# Altium footprint library PcbLib_Nixie.PcbLib: 17 footprints (part 1 of 2)
Each footprint in its own frame and in the unit in brackets; x right, y up, seen from the top. Pads: shape width x height; smd on the part's side, far side on the other; paste and mask are expansions set on the pad; w line width, h text height; cw(c..) or ccw(c..) is an arc to the next point about the centre after c.
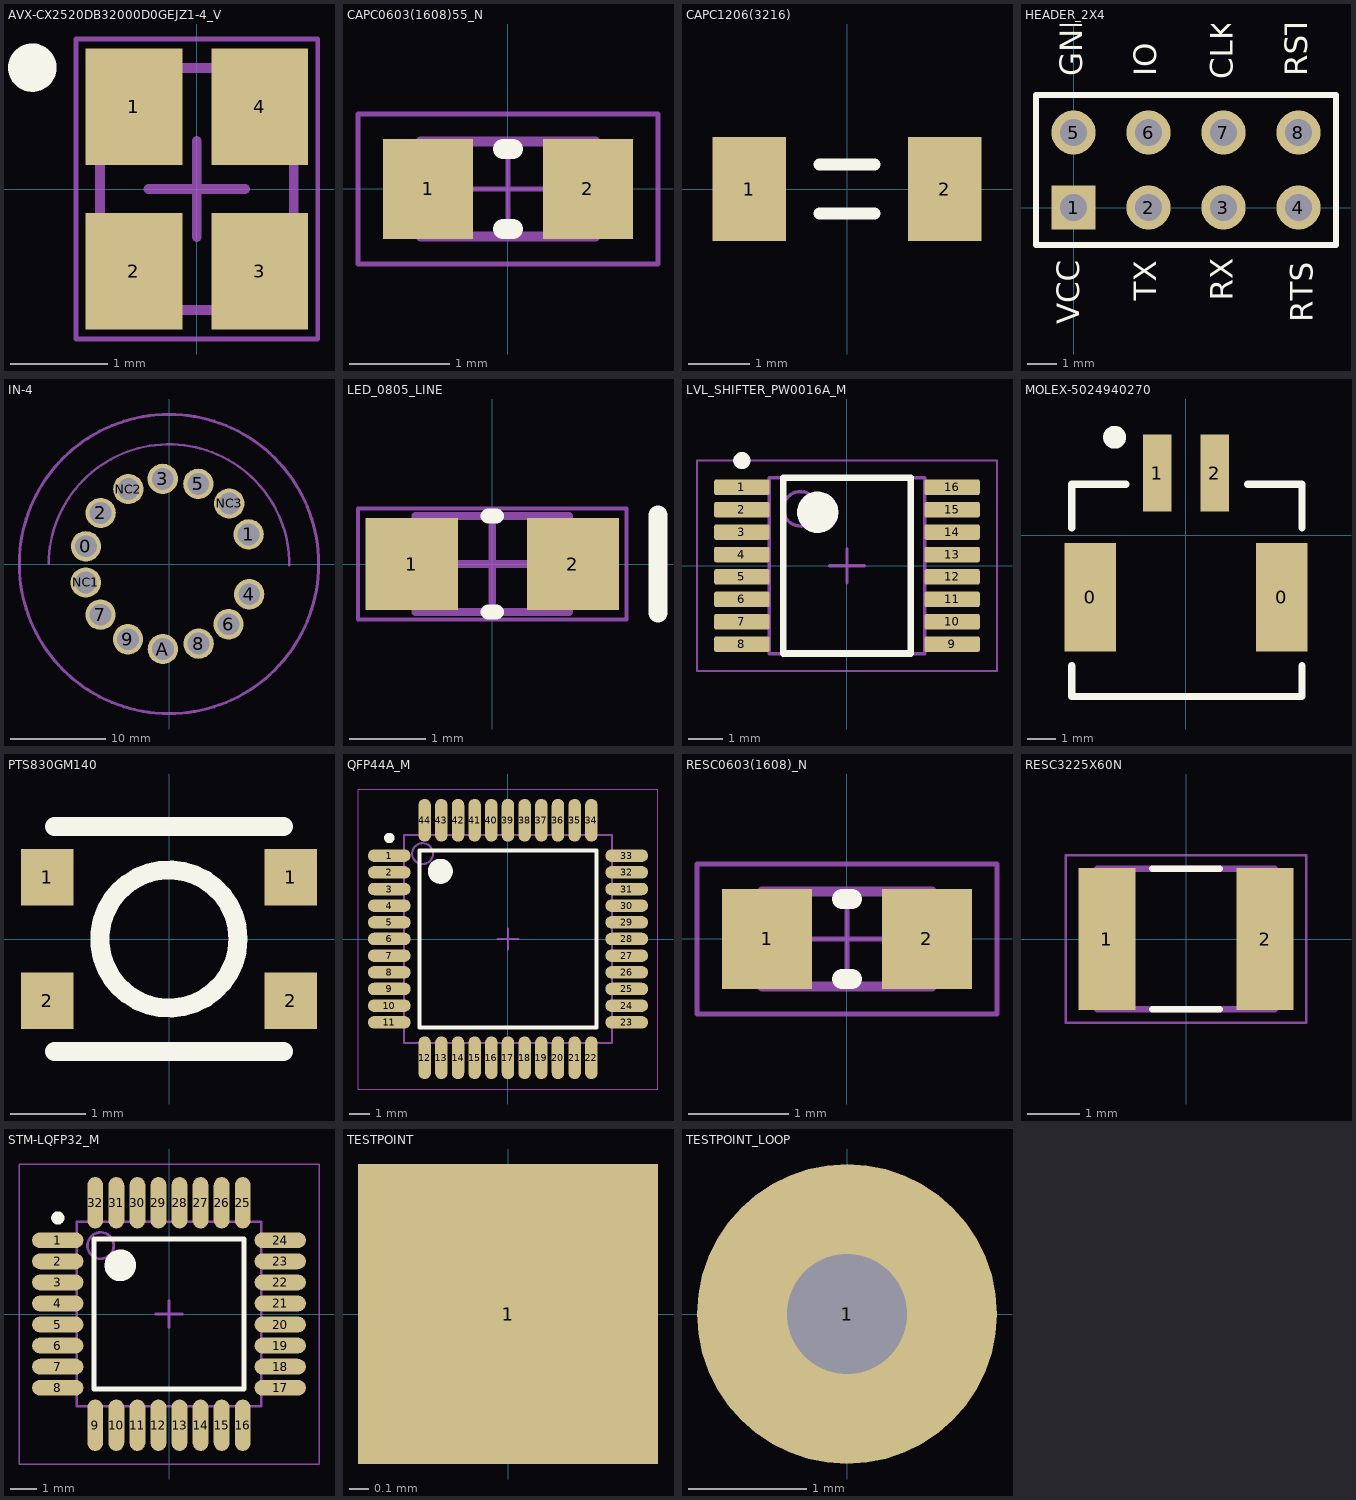
[diagram p0: the footprints below, top view; thin cyan lines are the x and y axes]

## AVX-CX2520DB32000D0GEJZ1-4_V [mm] "Hand Drawn, 4-Leads,Body 2.5x2mm"
height 0.55
pads (4):
  rect 1x1.2 smd: 1(-0.65,0.85) 2(-0.65,-0.85) 3(0.65,-0.85) 4(0.65,0.85)
Top Overlay:
  circle w0.25: c-1.7,1.254 r0.125
Mechanical 13:
  lines w0.1: -1,-1.25 -1,1.25 1,1.25 1,-1.25 -1,-1.25
Mechanical 15:
  lines w0.05: -1.25,-1.55 -1.25,1.55 1.25,1.55 1.25,-1.55 -1.25,-1.55
  lines w0.1: -0.5,0 0.5,0 ; 0,-0.5 0,0.5
3D body: height 0.55, standoff 0, extent -1,-1.25 1,1.25

## CAPC0603(1608)55_N [mm] "Chip Capacitor, Body 1.6x0.8mm, Height 0.55mm, IPC Medium Density"
height 0.55
pads (2):
  rect 0.9x1 smd: 1(-0.8,0) 2(0.8,0)
Top Overlay:
  lines w0.2: -0.05,-0.4 0.05,-0.4 ; -0.05,0.4 0.05,0.4
Mechanical 13:
  lines w0.1: -0.875,-0.475 0.875,-0.475 0.875,0.475 -0.875,0.475 -0.875,-0.475
Mechanical 15:
  lines w0.05: -0.475,0 0.475,0 ; 0,-0.475 0,0.475 ; -1.5,-0.75 1.5,-0.75 1.5,0.75 -1.5,0.75 -1.5,-0.75
3D body: height 0.55, standoff 0, extent 0.525,-0.475 0.875,0.475
3D body: height 0.55, standoff 0, extent -0.875,-0.475 -0.525,0.475
3D body: height 0.55, standoff 0, extent -0.525,-0.475 0.525,0.475

## CAPC1206(3216) [mm] "Chip Capacitor, Body 3.2x1.6mm, Height 0.55mm, IPC Medium Density"
height 0.55
pads (2):
  rect 1.2x1.7 smd: 1(-1.6,0) 2(1.6,0)
Top Overlay:
  lines w0.2: -0.45,-0.4 0.45,-0.4 ; -0.45,0.4 0.45,0.4
3D body "model.step": height 1.75, standoff 0.01, extent -1.6,-0.85 1.6,0.85

## HEADER_2X4 [mm]
pads (8):
  rect 1.5x1.5 hole 0.9: 1(0,0)
  round 1.5 hole 0.9: 2(2.54,0) 3(5.08,0) 4(7.62,0) 5(0,2.54) 6(2.54,2.54) 7(5.08,2.54) 8(7.62,2.54)
Top Overlay:
  lines w0.2: -1.27,-1.27 8.89,-1.27 8.89,3.81 -1.27,3.81 -1.27,-1.27
  text "GND" at 0.3,4.446 h0.76
  text "VCC" at 0.2,-3.954 h0.76
  text "RST" at 7.92,4.446 h0.76
  text "CLK" at 5.4,4.346 h0.76
  text "IO" at 2.8,4.446 h0.76
  text "RTS" at 8.1,-3.879 h0.76
  text "RX" at 5.4,-3.152 h0.76
  text "TX" at 2.8,-3.152 h0.76
3D body "User Library-2_54mm Male Header (4x2).STEP": height 8.54, standoff -3, extent -1.36,-1.315 8.8,3.665

## IN-4 [mm]
pads (14):
  round 3.2 / inner round 1.524 / far side round 3.2 hole 2.3: 0(-8.76,1.863) 1(8.394,3.123) 2(-7.214,5.386) 3(-0.659,8.976) 4(8.456,-3.189) 5(3.089,8.449) 6(6.282,-6.357) 7(-7.228,-5.344) 8(3.123,-8.394) 9(-4.33,-7.939) A(-0.645,-8.971) NC1(-8.781,-1.948) NC2(-4.291,7.907) NC3(6.35,6.382)
Top Solder:
  circle w2.54: c0,0 r1.27
  circle w0.025: c0,0 r2.54
Bottom Solder:
  circle w2.54: c0,0 r1.27
Drill Guide:
  circle w0.025: c0,0 r2.54
Mechanical 7:
  circle w0.254: c0,0 r15.756
  circle w0.254: c0,0 r15.819
  lines w0.254: -12.7,0 cw(c0,-0.079) 12.7,-0.159

## LED_0805_LINE [mm] "SMD, 2-Leads, Body 2x1.25mm"
height 0.8
pads (2):
  rect 1.2x1.2 smd: 1(-1.05,0) 2(1.05,0)
Top Overlay:
  lines w0.2: -0.051,-0.625 0.051,-0.625 ; -0.051,0.625 0.051,0.625
  lines w0.254: 2.159,-0.635 2.159,0.635
Mechanical 13:
  lines w0.1: -0.7,-0.625 -0.7,0.625 ; 0.7,-0.625 0.7,0.625 ; -1,-0.625 1,-0.625 1,0.625 -1,0.625 -1,-0.625
Mechanical 15:
  lines w0.05: -1.75,-0.725 -1.75,0.725 1.75,0.725 1.75,-0.725 -1.75,-0.725
  lines w0.1: -0.5,0 0.5,0 ; 0,-0.5 0,0.5
3D body: height 0.8, standoff 0, extent -0.7,-0.625 0.7,0.625
3D body: height 0.3, standoff 0, extent -1,-0.625 1,0.625

## LVL_SHIFTER_PW0016A_M [mm] "SOP, 16-Leads, Body 5.1x4.5mm, Pitch 0.65mm, IPC Low Density"
height 1.2
pads (16):
  rrect22% 1.6x0.45 smd: 1(-3.05,2.275) 2(-3.05,1.625) 3(-3.05,0.975) 4(-3.05,0.325) 5(-3.05,-0.325) 6(-3.05,-0.975) 7(-3.05,-1.625) 8(-3.05,-2.275) 9(3.05,-2.275) 10(3.05,-1.625) 11(3.05,-0.975) 12(3.05,-0.325) 13(3.05,0.325) 14(3.05,0.975) 15(3.05,1.625) 16(3.05,2.275)
Top Overlay:
  circle w0.25: c-3.05,3.05 r0.125
  circle w0.6: c-0.85,1.55 r0.3
  lines w0.2: -1.85,-2.55 -1.85,2.55 1.85,2.55 1.85,-2.55 -1.85,-2.55
Mechanical 13:
  circle w0.1: c-1.35,1.65 r0.5
  lines w0.1: -2.25,-2.55 -2.25,2.55 2.25,2.55 2.25,-2.55 -2.25,-2.55
Mechanical 15:
  lines w0.05: -4.35,-3.05 -4.35,3.05 4.35,3.05 4.35,-3.05 -4.35,-3.05
  lines w0.1: -0.5,0 0.5,0 ; 0,-0.5 0,0.5
3D body "PW0016AakaMTC16.stp": height 1, standoff 0, extent -3.21,-2.5 3.21,2.5

## MOLEX-5024940270 [mm] "Molex 5024940670 2 pin 2mm pitch SMD RA connector"
pads (4):
  rect 1.8x3.8 smd: 0(-3.35,-2.175) 0(3.35,-2.175)
  rect 1x2.7 smd: 1(-1,2.175) 2(1,2.175)
Top Overlay:
  circle w0.4: c-2.5,3.425 r0.2
  lines w0.254: -4,-4.572 -4,-5.644 -1.127,-5.644 4.064,-5.644 4.064,-4.572 ; -4,0.254 -4,1.778 -2.096,1.778 ; 2.16,1.778 4.064,1.778 4.064,0.254
3D body "5024940270.stp": height 6.91, standoff 0.01, extent -4,-5.743 4,2.757

## PCBComponent_1 [mm]

## PTS830GM140 [mm] "PWR TACTILE SWITCH (RED)"
pads (4):
  rect 0.7x0.75 smd: 1(-1.625,0.825) 1(1.625,0.825) 2(-1.625,-0.825) 2(1.625,-0.825)
Top Overlay:
  circle w0.254: c0,0 r0.922
  lines w0.254: -1.525,-1.5 1.525,-1.5 ; -1.525,1.5 1.525,1.5
3D body "PTS830GM140GSMTRLFS.stp": height 1.35, standoff -0.05, extent -1.75,-1.3 1.75,1.3

## QFP44A_M [mm] "Thin QFP, 44-Leads, Body 10x10mm, Pitch 0.8mm, IPC Low Density"
height 1.2
pads (44):
  oval 2.05x0.6 smd: 1(-5.7,4) 2(-5.7,3.2) 3(-5.7,2.4) 4(-5.7,1.6) 5(-5.7,0.8) 6(-5.7,0) 7(-5.7,-0.8) 8(-5.7,-1.6) 9(-5.7,-2.4) 10(-5.7,-3.2) 11(-5.7,-4) 23(5.7,-4) 24(5.7,-3.2) 25(5.7,-2.4) 26(5.7,-1.6) 27(5.7,-0.8) 28(5.7,0) 29(5.7,0.8) 30(5.7,1.6) 31(5.7,2.4) 32(5.7,3.2) 33(5.7,4)
  oval 0.6x2.05 smd: 12(-4,-5.7) 13(-3.2,-5.7) 14(-2.4,-5.7) 15(-1.6,-5.7) 16(-0.8,-5.7) 17(0,-5.7) 18(0.8,-5.7) 19(1.6,-5.7) 20(2.4,-5.7) 21(3.2,-5.7) 22(4,-5.7) 34(4,5.7) 35(3.2,5.7) 36(2.4,5.7) 37(1.6,5.7) 38(0.8,5.7) 39(0,5.7) 40(-0.8,5.7) 41(-1.6,5.7) 42(-2.4,5.7) 43(-3.2,5.7) 44(-4,5.7)
Top Overlay:
  circle w0.25: c-5.7,4.85 r0.125
  circle w0.6: c-3.25,3.25 r0.3
  lines w0.2: -4.25,-4.25 -4.25,4.25 4.25,4.25 4.25,-4.25 -4.25,-4.25
Mechanical 13:
  circle w0.1: c-4.1,4.1 r0.5
  lines w0.1: -5,-5 -5,5 5,5 5,-5 -5,-5
Mechanical 15:
  lines w0.05: -7.2,-7.2 -7.2,7.2 7.2,7.2 7.2,-7.2 -7.2,-7.2
  lines w0.1: -0.5,0 0.5,0 ; 0,-0.5 0,0.5
3D body: height 1.2, standoff 0, extent -5,-5 5,5

## RESC0603(1608)_N [mm] "Chip Resistor, Body 1.6x0.8mm, IPC Medium Density"
height 0.6
pads (2):
  rect 0.9x1 smd: 1(-0.8,0) 2(0.8,0)
Top Overlay:
  lines w0.2: -0.05,-0.4 0.05,-0.4 ; -0.05,0.4 0.05,0.4
Mechanical 13:
  lines w0.1: -0.85,-0.475 -0.85,0.475 0.85,0.475 0.85,-0.475 -0.85,-0.475
Mechanical 15:
  lines w0.05: -0.475,0 0.475,0 ; 0,-0.475 0,0.475 ; -1.5,-0.75 -1.5,0.75 1.5,0.75 1.5,-0.75 -1.5,-0.75
3D body: height 0.6, standoff 0, extent 0.581,-0.474 0.85,0.475
3D body: height 0.6, standoff 0, extent -0.58,-0.474 0.581,0.475
3D body: height 0.6, standoff 0, extent -0.849,-0.474 -0.58,0.475

## RESC3225X60N [mm]
pads (2):
  rect 1.09x2.72 smd: 1(-1.515,0) 2(1.515,0)
Top Overlay:
  lines w0.127: -0.65,-1.35 0.65,-1.35 ; -0.65,1.35 0.65,1.35
Mechanical 13:
  lines w0.127: -1.7,-1.35 1.7,-1.35 1.7,1.35 -1.7,1.35 -1.7,-1.35
Mechanical 15:
  lines w0.05: -2.308,-1.608 -2.308,1.608 2.308,1.608 2.308,-1.608 -2.308,-1.608

## STM-LQFP32_M [mm] "QFP, 32-Leads, Body 7x7mm, Pitch 0.8mm, IPC Low Density"
height 1.6
pads (32):
  oval 1.95x0.6 smd: 1(-4.225,2.8) 2(-4.225,2) 3(-4.225,1.2) 4(-4.225,0.4) 5(-4.225,-0.4) 6(-4.225,-1.2) 7(-4.225,-2) 8(-4.225,-2.8) 17(4.225,-2.8) 18(4.225,-2) 19(4.225,-1.2) 20(4.225,-0.4) 21(4.225,0.4) 22(4.225,1.2) 23(4.225,2) 24(4.225,2.8)
  oval 0.6x1.95 smd: 9(-2.8,-4.225) 10(-2,-4.225) 11(-1.2,-4.225) 12(-0.4,-4.225) 13(0.4,-4.225) 14(1.2,-4.225) 15(2,-4.225) 16(2.8,-4.225) 25(2.8,4.225) 26(2,4.225) 27(1.2,4.225) 28(0.4,4.225) 29(-0.4,4.225) 30(-1.2,4.225) 31(-2,4.225) 32(-2.8,4.225)
Top Overlay:
  circle w0.6: c-1.85,1.85 r0.3
  circle w0.25: c-4.225,3.65 r0.125
  lines w0.2: -2.85,-2.85 2.85,-2.85 2.85,2.85 -2.85,2.85 -2.85,-2.85
Mechanical 13:
  circle w0.1: c-2.6,2.6 r0.5
  lines w0.1: -3.5,-3.5 3.5,-3.5 3.5,3.5 -3.5,3.5 -3.5,-3.5
Mechanical 15:
  lines w0.05: -5.7,-5.7 5.7,-5.7 5.7,5.7 -5.7,5.7 -5.7,-5.7
  lines w0.1: -0.5,0 0.5,0 ; 0,-0.5 0,0.5
3D body: height 1.6, standoff 0.05, extent -3.5,-3.5 3.5,3.5

## TESTPOINT [mil]
pads (1):
  rect 60x60 smd: 1(0,0)

## TESTPOINT_LOOP [mm]
pads (1):
  round 2.54 hole 1.02: 1(0,0)
3D body "User Library-Test Point Keystone - 5002 WHITE.STEP": height 4.57, standoff -3.05, extent -1.27,-1.27 1.27,1.27